# Altium footprint library USB4050-30-A.PcbLib: 1 footprints
Each footprint in its own frame and in the unit in brackets; x right, y up, seen from the top. Pads: shape width x height; smd on the part's side, far side on the other; paste and mask are expansions set on the pad; w line width, h text height; cw(c..) or ccw(c..) is an arc to the next point about the centre after c.
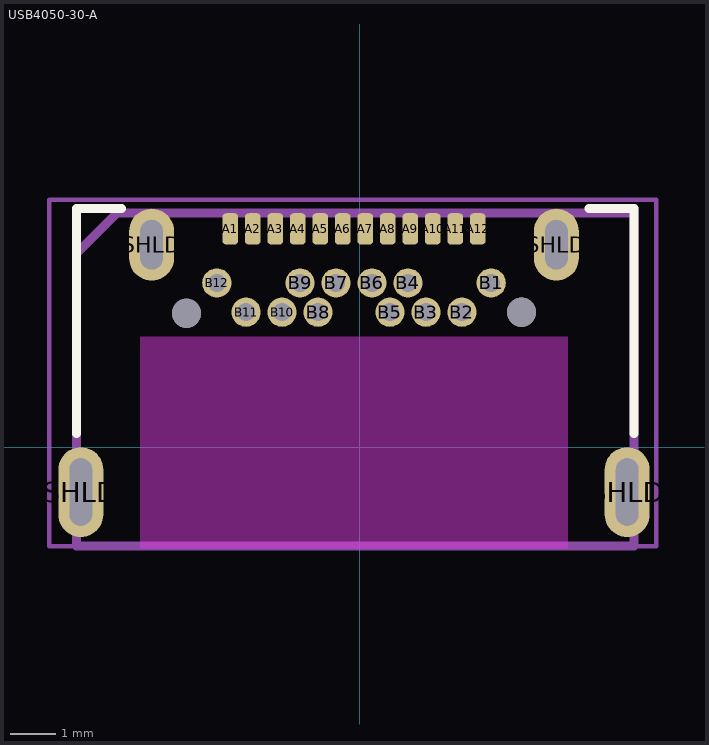
[diagram p0: the footprint, top view; thin cyan lines are the x and y axes]

## USB4050-30-A [mm]
pads (30):
  rrect50% 0.35x0.7 smd mask+0: A1(-2.875,4.85) A2(-2.375,4.85) A3(-1.875,4.85) A4(-1.375,4.85) A5(-0.875,4.85) A6(-0.375,4.85) A7(0.125,4.85) A8(0.625,4.85) A9(1.125,4.85) A10(1.625,4.85) A11(2.125,4.85) A12(2.625,4.85)
  round 0.65 hole 0.4 mask+0: B1(2.925,3.65) B2(2.275,3) B3(1.475,3) B4(1.075,3.65) B5(0.675,3) B6(0.275,3.65) B7(-0.525,3.65) B8(-0.925,3) B9(-1.325,3.65) B10(-1.725,3) B11(-2.525,3) B12(-3.175,3.65)
  oval 1x2 hole 0.5 slot 1.5 at 90 deg mask+0: SHLD(-6.2,-1) SHLD(5.95,-1)
  oval 1x1.6 hole 0.5 slot 1.1 at 90 deg mask+0: SHLD(-4.625,4.5) SHLD(4.375,4.5)
  round 0.65 hole 0.65 unplated mask+0: ""(-3.85,2.975) ""(3.6,3)
Top Overlay:
  lines w0.2: -6.3,0.3 -6.3,5.3 -5.3,5.3 ; 5.1,5.3 6.1,5.3 6.1,0.3
Top Paste:
  drawing of 17 lines, arcs and shapes, not listed
Keep-Out Layer:
  board cut-out: 4.625,-2.25 -4.875,-2.25 -4.875,2.45 4.625,2.45
Mechanical 3:
  lines w0.2: -6.3,-2.2 -6.3,4.3 -5.4,5.2 6,5.2 6.1,5.3 6.1,-2.2 -6.3,-2.2
Mechanical 7:
  lines w0.1: -2.6,-2.2 -6.9,-2.2 ; -6.9,-2.2 -6.9,5.5 6.3,5.5 6.6,5.5 6.6,-2.2 -6.9,-2.2
Mechanical 9:
  text "'.Designator'" at -6.331,-0.768 h1.02
3D body: height 2.2, standoff -1.7, extent -7.3,-2.3 6.2,5.4
3D body "USB4050-30-A.stp": height 2.7, standoff -2.01, extent -6.3,-4.75 6.05,5.25